# EAGLE library part ICM-20948 (library Gucci_ControlBoard)
Accelerometer, Gyroscope, Magnetometer, 9 Axis Sensor I²C, SPI Output DigiKey <https://www.digikey.com/product-detail/en/tdk-invensense/ICM-20948/1428-1123-1-ND/7062698>
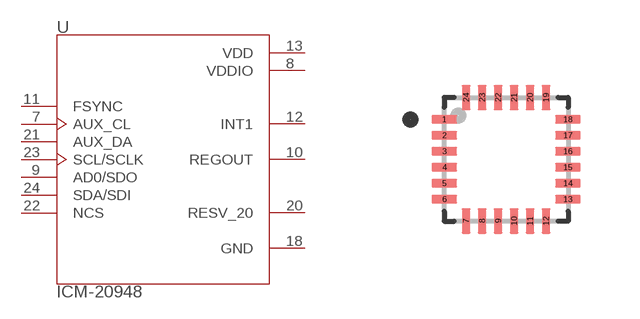
[diagram p0: symbol with the pads of 24-QFN_(3X3); footprint 24-QFN_(3X3)]

Designator prefix U

## ICM-20948 (DKPN: 1428-1123-1-ND)  [24-QFN_(3X3)]
7  AUX_CL  pas
8  VDDIO  pas
9  AD0/SDO  pas
10  REGOUT  pas
11  FSYNC  pas
12  INT1  pas
13  VDD  pas
18  GND  pas
20  RESV_20  pas
21  AUX_DA  pas
22  NCS  pas
23  SCL/SCLK  pas
24  SDA/SDI  pas

## Footprint 24-QFN_(3X3) (pad centres in mm)
Datasheet <https://invensense.tdk.com/wp-content/uploads/2016/06/DS-000189-ICM-20948-v1.3.pdf?ref_disty=digikey>
smd 0.64 x 0.22: 1 -1.545,1; 2 -1.545,0.6; 3 -1.545,0.2; 4 -1.545,-0.2; 5 -1.545,-0.6; 6 -1.545,-1; 13 1.545,-1; 14 1.545,-0.6; 15 1.545,-0.2; 16 1.545,0.2; 17 1.545,0.6; 18 1.545,1
smd 0.22 x 0.64: 7 -1,-1.545; 8 -0.6,-1.545; 9 -0.2,-1.545; 10 0.2,-1.545; 11 0.6,-1.545; 12 1,-1.545; 19 1,1.545; 20 0.6,1.545; 21 0.2,1.545; 22 -0.2,1.545; 23 -0.6,1.545; 24 -1,1.545